# Altium schematic symbol library fuse.SchLib: 20 symbols
Pins are listed as number, name and electrical type; pins without a type are passive.

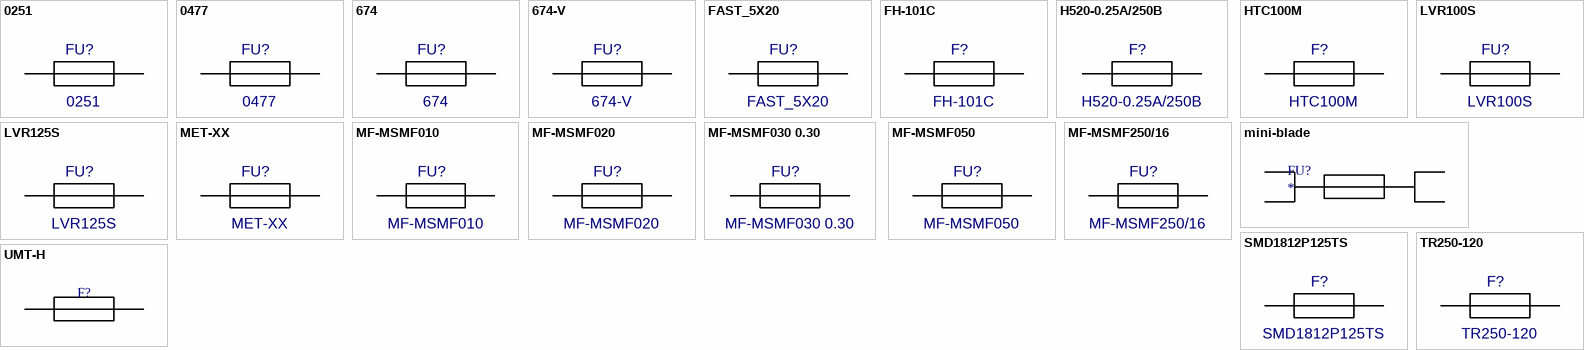
[diagram p0: symbols 0251 to UMT-H]

## 0251
designator FU?
Value: {Value}
footprint 0251
pins: 1 A, 2 B

## 0477
designator FU?
Value: {Value}
footprint 0477
pins: 1 A, 2 B

## 674
designator FU?
Value: {Value}
footprint 674
pins: 1 A, 2 B

## 674-V
designator FU?
Value: {Value}
footprint 674-V
pins: 1 A, 2 B

## FAST_5X20
designator FU?
Value: {Value}
footprint FAST_6X25
pins: 1 A, 2 B

## FH-101C
designator F?
Value: {Value}
footprint FH-101C
pins: 1 A, 2 B

## H520-0.25A/250B
designator F?
Value: {Value}
footprint H520XX-XX/XX
pins: 1 A, 2 B

## HTC100M
designator F?
Value: {Value}
footprint HTC100M
pins: 1 A, 2 B

## LVR100S
designator FU?
Value: {Value}
footprint LVR1XXS
pins: 1 A, 2 B

## LVR125S
designator FU?
Value: {Value}
footprint LVR1XXS
pins: 1 A, 2 B

## MET-XX
designator FU?
Value: {Value}
footprint MET-FUSE
pins: 1 A, 2 B

## MF-MSMF010
designator FU?
Value: {Value}
footprint SMD1812
pins: 1, 2

## MF-MSMF020
designator FU?
Value: {Value}
footprint SMD1812
pins: 1, 2

## MF-MSMF030 0.30
designator FU?
Value: {Value}
footprint SMD1812
pins: 1 A, 2 B

## MF-MSMF050
designator FU?
Value: {Value}
footprint SMD1812
pins: 1 A, 2 B

## MF-MSMF250/16
designator FU?
Value: {Value}
footprint SMD1812
pins: 1 A, 2 B

## mini-blade
designator FU?
footprint BK-6013
pins: 0 B, 1 A, 2 A, 3 B

## SMD1812P125TS
designator F?
Value: {Value}
footprint SMD1812
pins: 1 A, 2 B

## TR250-120
designator F?
Value: {Value}
footprint TR250-120
pins: 1 A, 2 B

## UMT-H
designator F?  (value not drawn)
footprint UMT-H
pins: 1 A, 2 B